# Altium integrated library Maxim Digital Potentiometers.IntLib: 1045 symbols (part 25 of 42)
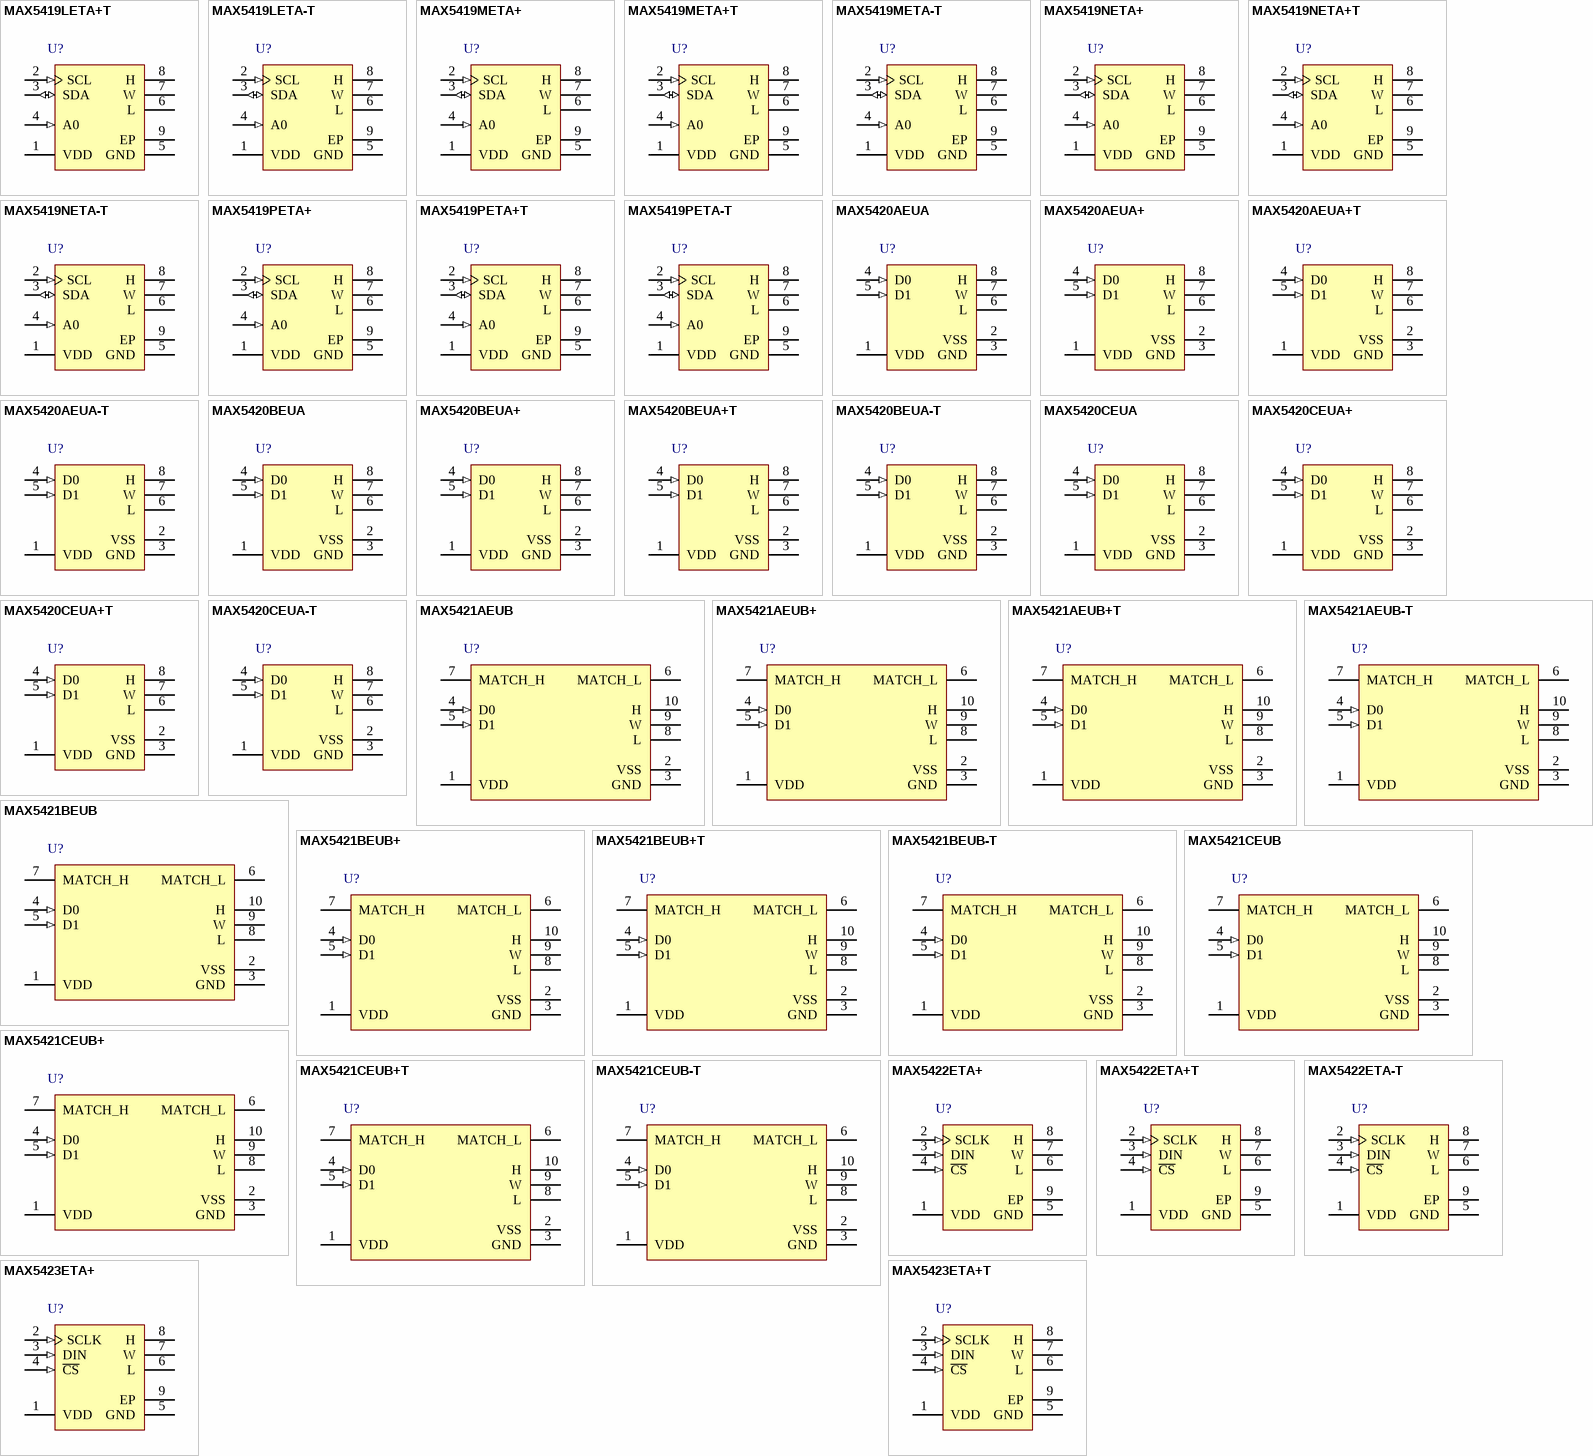
[diagram p53: symbols MAX5419LETA+T to MAX5423ETA+T]

## MAX5419PETA+T
designator U?
200 kOhm, I2C-Interface Digital Potentiometer with 2-Wire Serial Control Interface, Non-Volatile, Linear Taper, 256 Steps, -40 to 85 degC, 8-pin TDFN-EP (T833+2), Pb-Free, Tape and Reel; PartNumber: MAX5419PETA+T; DatasheetVersion: Rev. 4; PackageVersion: Rev. J, 08/2009; PackageReference: T833+2; PackageDescription: 8-Pin Plastic Very Very Thin Dual Flatpack No Leads, Exposed Pad (T833+2); Supplier 1: Digi-Key; Supplier Part Number 1: MAX5419PETA+T-ND; Supplier 2: Mouser; Supplier Part Number 2: 700-MAX5419PETAT; Control Interface: 2-Wire Serial; Features: EEPROM Wiper Memory; Mounting Technology: Surface Mount; Code_JEDEC: MO229; ComponentLink1Description: Manufacturer URL; ComponentLink1URL: http://www.maximintegrated.com/; ComponentLink2Description: Datasheet; ComponentLink2URL: http://datasheets.maximintegrated.com/en/ds/MAX5417-MAX5419.pdf; ComponentLink3Description: Package Specification; ComponentLink3URL: http://pdfserv.maximintegrated.com/package_dwgs/21-0137.PDF
footprint MAXM-T833+2_V (SON, 8-Leads, Body 3x3 mm, Pitch 0.65mm, Thermal Pad 2.3x1.5mm)
pins: 1 VDD (power) "Power-Supply Input. 2.7V to 5.25V voltage range. Bypass with a 0.1uF capacitor from VDD to GND.", 2 SCL (in) "I2C-Interface Clock Input", 3 SDA (io) "I2C-Interface Data Input", 4 A0 (in) "Address Input. Sets the A0 bit in the device ID address.", 5 GND (power) "Ground", 6 L "Low Terminal", 7 W "Wiper Terminal", 8 H "High Terminal", 9 EP (power) "Exposed Pad. Internally connected to GND. Connect to a large ground plane to maximize thermal performance. Not intended as an electrical point."

## MAX5419PETA-T
designator U?
200 kOhm, I2C-Interface Digital Potentiometer with 2-Wire Serial Control Interface, Non-Volatile, Linear Taper, 256 Steps, -40 to 85 degC, 8-pin TDFN-EP (T833-2), Tape and Reel; PartNumber: MAX5419PETA-T; DatasheetVersion: Rev. 4; PackageVersion: Rev. J, 08/2009; PackageReference: T833-2; PackageDescription: 8-Pin Plastic Very Very Thin Dual Flatpack No Leads, Exposed Pad, Body 3 x 3 mm, Pitch 0.65 mm; Supplier 1: Mouser; Supplier Part Number 1: N/A; Control Interface: 2-Wire Serial; Features: EEPROM Wiper Memory; Mounting Technology: Surface Mount; Code_JEDEC: MO229; ComponentLink1Description: Manufacturer URL; ComponentLink1URL: http://www.maximintegrated.com/; ComponentLink2Description: Datasheet; ComponentLink2URL: http://datasheets.maximintegrated.com/en/ds/MAX5417-MAX5419.pdf; ComponentLink3Description: Package Specification; ComponentLink3URL: http://pdfserv.maximintegrated.com/package_dwgs/21-0137.PDF
footprint MAXM-T833-2_V (SON, 8-Leads, Body 3x3mm, Pitch 0.65mm, Thermal Pad 2.3x1.5mm, Recommended)
pins: 1 VDD (power) "Power-Supply Input. 2.7V to 5.25V voltage range. Bypass with a 0.1uF capacitor from VDD to GND.", 2 SCL (in) "I2C-Interface Clock Input", 3 SDA (io) "I2C-Interface Data Input", 4 A0 (in) "Address Input. Sets the A0 bit in the device ID address.", 5 GND (power) "Ground", 6 L "Low Terminal", 7 W "Wiper Terminal", 8 H "High Terminal", 9 EP (power) "Exposed Pad. Internally connected to GND. Connect to a large ground plane to maximize thermal performance. Not intended as an electrical point."

## MAX5420AEUA
designator U?
Digitally Programmable Precision Voltage Divider for PGAs with 2-Wire Parallel Control Interface, Volatile, 4 Steps, -40 to 85 degC, 8-pin uMAX (U8-1); PartNumber: MAX5420AEUA; DatasheetVersion: Rev. 2; PackageVersion: Rev. L, 08/2009; PackageReference: U8-1; PackageDescription: 8-Pin Micro-MAX, Thin Shrink Small-Outline (U8-1), Body 3 x 3 mm, Pitch 0.65mm; Supplier 1: Mouser; Supplier Part Number 1: N/A; Applications: Precision Voltage Divider; Control Interface: 2-Wire Parallel; Mounting Technology: Surface Mount; Code_JEDEC: MO-187; ComponentLink1Description: Manufacturer URL; ComponentLink1URL: http://www.maximintegrated.com/; ComponentLink2Description: Datasheet; ComponentLink2URL: http://datasheets.maximintegrated.com/en/ds/MAX5420-MAX5421.pdf; ComponentLink3Description: Package Specification; ComponentLink3URL: http://pdfserv.maximintegrated.com/package_dwgs/21-0036.PDF
footprint MAXM-U8-1_N (SOP, 8-Leads, Body 3x3mm, Pitch 0.65mm, IPC Medium Density)
footprint MAXM-U8-1_L (SOP, 8-Leads, Body 3x3mm, Pitch 0.65mm, IPC High Density)
footprint MAXM-U8-1_M (SOP, 8-Leads, Body 3x3mm, Pitch 0.65mm, IPC Low Density)
pins: 1 VDD (power) "Positive Supply Voltage", 2 VSS (power) "Negative Supply Voltage", 3 GND (power) "Ground", 4 D0 (in) "Digital Control Inputs. Drive D0 and D1 logic high or logic low to set the divider ratio. See Logic Control Truth Table.", 5 D1 (in) "Digital Control Inputs. Drive D0 and D1 logic high or logic low to set the divider ratio. See Logic Control Truth Table.", 6 L "Low Terminal of Resistor-Divider", 7 W "Resistor-Divider Output", 8 H "High Terminal of Resistor-Divider"

## MAX5420AEUA+
designator U?
Digitally Programmable Precision Voltage Divider for PGAs with 2-Wire Parallel Control Interface, Volatile, 4 Steps, -40 to 85 degC, 8-pin uMAX (U8+1), Pb-Free; PartNumber: MAX5420AEUA+; DatasheetVersion: Rev. 2; PackageVersion: Rev. L, 08/2009; PackageReference: U8+1; PackageDescription: 8-Pin Micro-MAX, Thin Shrink Small-Outline (U8+1), Body 3 x 3 mm, Pitch 0.65 mm; Supplier 1: Digi-Key; Supplier Part Number 1: MAX5420AEUA+-ND; Supplier 2: Mouser; Supplier Part Number 2: 700-MAX5420AEUA; Applications: Precision Voltage Divider; Control Interface: 2-Wire Parallel; Mounting Technology: Surface Mount; Code_JEDEC: MO-187; ComponentLink1Description: Manufacturer URL; ComponentLink1URL: http://www.maximintegrated.com/; ComponentLink2Description: Datasheet; ComponentLink2URL: http://datasheets.maximintegrated.com/en/ds/MAX5420-MAX5421.pdf; ComponentLink3Description: Package Specification; ComponentLink3URL: http://pdfserv.maximintegrated.com/package_dwgs/21-0036.PDF
footprint MAXM-U8+1_N (SOP, 8-Leads, Body 3x3mm, Pitch 0.65mm, IPC Medium Density)
footprint MAXM-U8+1_L (SOP, 8-Leads, Body 3x3mm, Pitch 0.65mm, IPC High Density)
footprint MAXM-U8+1_M (SOP, 8-Leads, Body 3x3mm, Pitch 0.65mm, IPC Low Density)
pins: 1 VDD (power) "Positive Supply Voltage", 2 VSS (power) "Negative Supply Voltage", 3 GND (power) "Ground", 4 D0 (in) "Digital Control Inputs. Drive D0 and D1 logic high or logic low to set the divider ratio. See Logic Control Truth Table.", 5 D1 (in) "Digital Control Inputs. Drive D0 and D1 logic high or logic low to set the divider ratio. See Logic Control Truth Table.", 6 L "Low Terminal of Resistor-Divider", 7 W "Resistor-Divider Output", 8 H "High Terminal of Resistor-Divider"

## MAX5420AEUA+T
designator U?
Digitally Programmable Precision Voltage Divider for PGAs with 2-Wire Parallel Control Interface, Volatile, 4 Steps, -40 to 85 degC, 8-pin uMAX (U8+1), Pb-Free, Tape and Reel; PartNumber: MAX5420AEUA+T; DatasheetVersion: Rev. 2; PackageVersion: Rev. L, 08/2009; PackageReference: U8+1; PackageDescription: 8-Pin Micro-MAX, Thin Shrink Small-Outline (U8+1), Body 3 x 3 mm, Pitch 0.65 mm; Supplier 1: Digi-Key; Supplier Part Number 1: MAX5420AEUA+T-ND; Supplier 2: Mouser; Supplier Part Number 2: 700-MAX5420AEUAT; Applications: Precision Voltage Divider; Control Interface: 2-Wire Parallel; Mounting Technology: Surface Mount; Code_JEDEC: MO-187; ComponentLink1Description: Manufacturer URL; ComponentLink1URL: http://www.maximintegrated.com/; ComponentLink2Description: Datasheet; ComponentLink2URL: http://datasheets.maximintegrated.com/en/ds/MAX5420-MAX5421.pdf; ComponentLink3Description: Package Specification; ComponentLink3URL: http://pdfserv.maximintegrated.com/package_dwgs/21-0036.PDF
footprint MAXM-U8+1_N (SOP, 8-Leads, Body 3x3mm, Pitch 0.65mm, IPC Medium Density)
footprint MAXM-U8+1_L (SOP, 8-Leads, Body 3x3mm, Pitch 0.65mm, IPC High Density)
footprint MAXM-U8+1_M (SOP, 8-Leads, Body 3x3mm, Pitch 0.65mm, IPC Low Density)
pins: 1 VDD (power) "Positive Supply Voltage", 2 VSS (power) "Negative Supply Voltage", 3 GND (power) "Ground", 4 D0 (in) "Digital Control Inputs. Drive D0 and D1 logic high or logic low to set the divider ratio. See Logic Control Truth Table.", 5 D1 (in) "Digital Control Inputs. Drive D0 and D1 logic high or logic low to set the divider ratio. See Logic Control Truth Table.", 6 L "Low Terminal of Resistor-Divider", 7 W "Resistor-Divider Output", 8 H "High Terminal of Resistor-Divider"

## MAX5420AEUA-T
designator U?
Digitally Programmable Precision Voltage Divider for PGAs with 2-Wire Parallel Control Interface, Volatile, 4 Steps, -40 to 85 degC, 8-pin uMAX (U8-1), Tape and Reel; PartNumber: MAX5420AEUA-T; DatasheetVersion: Rev. 2; PackageVersion: Rev. L, 08/2009; PackageReference: U8-1; PackageDescription: 8-Pin Micro-MAX, Thin Shrink Small-Outline (U8-1), Body 3 x 3 mm, Pitch 0.65mm; Supplier 1: Mouser; Supplier Part Number 1: N/A; Applications: Precision Voltage Divider; Control Interface: 2-Wire Parallel; Mounting Technology: Surface Mount; Code_JEDEC: MO-187; ComponentLink1Description: Manufacturer URL; ComponentLink1URL: http://www.maximintegrated.com/; ComponentLink2Description: Datasheet; ComponentLink2URL: http://datasheets.maximintegrated.com/en/ds/MAX5420-MAX5421.pdf; ComponentLink3Description: Package Specification; ComponentLink3URL: http://pdfserv.maximintegrated.com/package_dwgs/21-0036.PDF
footprint MAXM-U8-1_N (SOP, 8-Leads, Body 3x3mm, Pitch 0.65mm, IPC Medium Density)
footprint MAXM-U8-1_L (SOP, 8-Leads, Body 3x3mm, Pitch 0.65mm, IPC High Density)
footprint MAXM-U8-1_M (SOP, 8-Leads, Body 3x3mm, Pitch 0.65mm, IPC Low Density)
pins: 1 VDD (power) "Positive Supply Voltage", 2 VSS (power) "Negative Supply Voltage", 3 GND (power) "Ground", 4 D0 (in) "Digital Control Inputs. Drive D0 and D1 logic high or logic low to set the divider ratio. See Logic Control Truth Table.", 5 D1 (in) "Digital Control Inputs. Drive D0 and D1 logic high or logic low to set the divider ratio. See Logic Control Truth Table.", 6 L "Low Terminal of Resistor-Divider", 7 W "Resistor-Divider Output", 8 H "High Terminal of Resistor-Divider"

## MAX5420BEUA
designator U?
Digitally Programmable Precision Voltage Divider for PGAs with 2-Wire Parallel Control Interface, Volatile, 4 Steps, -40 to 85 degC, 8-pin uMAX (U8-1); PartNumber: MAX5420BEUA; DatasheetVersion: Rev. 2; PackageVersion: Rev. L, 08/2009; PackageReference: U8-1; PackageDescription: 8-Pin Micro-MAX, Thin Shrink Small-Outline (U8-1), Body 3 x 3 mm, Pitch 0.65mm; Supplier 1: Mouser; Supplier Part Number 1: N/A; Applications: Precision Voltage Divider; Control Interface: 2-Wire Parallel; Mounting Technology: Surface Mount; Code_JEDEC: MO-187; ComponentLink1Description: Manufacturer URL; ComponentLink1URL: http://www.maximintegrated.com/; ComponentLink2Description: Datasheet; ComponentLink2URL: http://datasheets.maximintegrated.com/en/ds/MAX5420-MAX5421.pdf; ComponentLink3Description: Package Specification; ComponentLink3URL: http://pdfserv.maximintegrated.com/package_dwgs/21-0036.PDF
footprint MAXM-U8-1_N (SOP, 8-Leads, Body 3x3mm, Pitch 0.65mm, IPC Medium Density)
footprint MAXM-U8-1_L (SOP, 8-Leads, Body 3x3mm, Pitch 0.65mm, IPC High Density)
footprint MAXM-U8-1_M (SOP, 8-Leads, Body 3x3mm, Pitch 0.65mm, IPC Low Density)
pins: 1 VDD (power) "Positive Supply Voltage", 2 VSS (power) "Negative Supply Voltage", 3 GND (power) "Ground", 4 D0 (in) "Digital Control Inputs. Drive D0 and D1 logic high or logic low to set the divider ratio. See Logic Control Truth Table.", 5 D1 (in) "Digital Control Inputs. Drive D0 and D1 logic high or logic low to set the divider ratio. See Logic Control Truth Table.", 6 L "Low Terminal of Resistor-Divider", 7 W "Resistor-Divider Output", 8 H "High Terminal of Resistor-Divider"

## MAX5420BEUA+
designator U?
Digitally Programmable Precision Voltage Divider for PGAs with 2-Wire Parallel Control Interface, Volatile, 4 Steps, -40 to 85 degC, 8-pin uMAX (U8+1), Pb-Free; PartNumber: MAX5420BEUA+; DatasheetVersion: Rev. 2; PackageVersion: Rev. L, 08/2009; PackageReference: U8+1; PackageDescription: 8-Pin Micro-MAX, Thin Shrink Small-Outline (U8+1), Body 3 x 3 mm, Pitch 0.65 mm; Supplier 1: Digi-Key; Supplier Part Number 1: MAX5420BEUA+-ND; Supplier 2: Mouser; Supplier Part Number 2: 700-MAX5420BEUA; Applications: Precision Voltage Divider; Control Interface: 2-Wire Parallel; Mounting Technology: Surface Mount; Code_JEDEC: MO-187; ComponentLink1Description: Manufacturer URL; ComponentLink1URL: http://www.maximintegrated.com/; ComponentLink2Description: Datasheet; ComponentLink2URL: http://datasheets.maximintegrated.com/en/ds/MAX5420-MAX5421.pdf; ComponentLink3Description: Package Specification; ComponentLink3URL: http://pdfserv.maximintegrated.com/package_dwgs/21-0036.PDF
footprint MAXM-U8+1_N (SOP, 8-Leads, Body 3x3mm, Pitch 0.65mm, IPC Medium Density)
footprint MAXM-U8+1_L (SOP, 8-Leads, Body 3x3mm, Pitch 0.65mm, IPC High Density)
footprint MAXM-U8+1_M (SOP, 8-Leads, Body 3x3mm, Pitch 0.65mm, IPC Low Density)
pins: 1 VDD (power) "Positive Supply Voltage", 2 VSS (power) "Negative Supply Voltage", 3 GND (power) "Ground", 4 D0 (in) "Digital Control Inputs. Drive D0 and D1 logic high or logic low to set the divider ratio. See Logic Control Truth Table.", 5 D1 (in) "Digital Control Inputs. Drive D0 and D1 logic high or logic low to set the divider ratio. See Logic Control Truth Table.", 6 L "Low Terminal of Resistor-Divider", 7 W "Resistor-Divider Output", 8 H "High Terminal of Resistor-Divider"

## MAX5420BEUA+T
designator U?
Digitally Programmable Precision Voltage Divider for PGAs with 2-Wire Parallel Control Interface, Volatile, 4 Steps, -40 to 85 degC, 8-pin uMAX (U8+1), Pb-Free, Tape and Reel; PartNumber: MAX5420BEUA+T; DatasheetVersion: Rev. 2; PackageVersion: Rev. L, 08/2009; PackageReference: U8+1; PackageDescription: 8-Pin Micro-MAX, Thin Shrink Small-Outline (U8+1), Body 3 x 3 mm, Pitch 0.65 mm; Supplier 1: Digi-Key; Supplier Part Number 1: MAX5420BEUA+T-ND; Supplier 2: Mouser; Supplier Part Number 2: 700-MAX5420BEUAT; Applications: Precision Voltage Divider; Control Interface: 2-Wire Parallel; Mounting Technology: Surface Mount; Code_JEDEC: MO-187; ComponentLink1Description: Manufacturer URL; ComponentLink1URL: http://www.maximintegrated.com/; ComponentLink2Description: Datasheet; ComponentLink2URL: http://datasheets.maximintegrated.com/en/ds/MAX5420-MAX5421.pdf; ComponentLink3Description: Package Specification; ComponentLink3URL: http://pdfserv.maximintegrated.com/package_dwgs/21-0036.PDF
footprint MAXM-U8+1_N (SOP, 8-Leads, Body 3x3mm, Pitch 0.65mm, IPC Medium Density)
footprint MAXM-U8+1_L (SOP, 8-Leads, Body 3x3mm, Pitch 0.65mm, IPC High Density)
footprint MAXM-U8+1_M (SOP, 8-Leads, Body 3x3mm, Pitch 0.65mm, IPC Low Density)
pins: 1 VDD (power) "Positive Supply Voltage", 2 VSS (power) "Negative Supply Voltage", 3 GND (power) "Ground", 4 D0 (in) "Digital Control Inputs. Drive D0 and D1 logic high or logic low to set the divider ratio. See Logic Control Truth Table.", 5 D1 (in) "Digital Control Inputs. Drive D0 and D1 logic high or logic low to set the divider ratio. See Logic Control Truth Table.", 6 L "Low Terminal of Resistor-Divider", 7 W "Resistor-Divider Output", 8 H "High Terminal of Resistor-Divider"

## MAX5420BEUA-T
designator U?
Digitally Programmable Precision Voltage Divider for PGAs with 2-Wire Parallel Control Interface, Volatile, 4 Steps, -40 to 85 degC, 8-pin uMAX (U8-1), Tape and Reel; PartNumber: MAX5420BEUA-T; DatasheetVersion: Rev. 2; PackageVersion: Rev. L, 08/2009; PackageReference: U8-1; PackageDescription: 8-Pin Micro-MAX, Thin Shrink Small-Outline (U8-1), Body 3 x 3 mm, Pitch 0.65mm; Supplier 1: Mouser; Supplier Part Number 1: N/A; Applications: Precision Voltage Divider; Control Interface: 2-Wire Parallel; Mounting Technology: Surface Mount; Code_JEDEC: MO-187; ComponentLink1Description: Manufacturer URL; ComponentLink1URL: http://www.maximintegrated.com/; ComponentLink2Description: Datasheet; ComponentLink2URL: http://datasheets.maximintegrated.com/en/ds/MAX5420-MAX5421.pdf; ComponentLink3Description: Package Specification; ComponentLink3URL: http://pdfserv.maximintegrated.com/package_dwgs/21-0036.PDF
footprint MAXM-U8-1_N (SOP, 8-Leads, Body 3x3mm, Pitch 0.65mm, IPC Medium Density)
footprint MAXM-U8-1_L (SOP, 8-Leads, Body 3x3mm, Pitch 0.65mm, IPC High Density)
footprint MAXM-U8-1_M (SOP, 8-Leads, Body 3x3mm, Pitch 0.65mm, IPC Low Density)
pins: 1 VDD (power) "Positive Supply Voltage", 2 VSS (power) "Negative Supply Voltage", 3 GND (power) "Ground", 4 D0 (in) "Digital Control Inputs. Drive D0 and D1 logic high or logic low to set the divider ratio. See Logic Control Truth Table.", 5 D1 (in) "Digital Control Inputs. Drive D0 and D1 logic high or logic low to set the divider ratio. See Logic Control Truth Table.", 6 L "Low Terminal of Resistor-Divider", 7 W "Resistor-Divider Output", 8 H "High Terminal of Resistor-Divider"

## MAX5420CEUA
designator U?
Digitally Programmable Precision Voltage Divider for PGAs with 2-Wire Parallel Control Interface, Volatile, 4 Steps, -40 to 85 degC, 8-pin uMAX (U8-1); PartNumber: MAX5420CEUA; DatasheetVersion: Rev. 2; PackageVersion: Rev. L, 08/2009; PackageReference: U8-1; PackageDescription: 8-Pin Micro-MAX, Thin Shrink Small-Outline (U8-1), Body 3 x 3 mm, Pitch 0.65mm; Supplier 1: Mouser; Supplier Part Number 1: N/A; Applications: Precision Voltage Divider; Control Interface: 2-Wire Parallel; Mounting Technology: Surface Mount; Code_JEDEC: MO-187; ComponentLink1Description: Manufacturer URL; ComponentLink1URL: http://www.maximintegrated.com/; ComponentLink2Description: Datasheet; ComponentLink2URL: http://datasheets.maximintegrated.com/en/ds/MAX5420-MAX5421.pdf; ComponentLink3Description: Package Specification; ComponentLink3URL: http://pdfserv.maximintegrated.com/package_dwgs/21-0036.PDF
footprint MAXM-U8-1_N (SOP, 8-Leads, Body 3x3mm, Pitch 0.65mm, IPC Medium Density)
footprint MAXM-U8-1_L (SOP, 8-Leads, Body 3x3mm, Pitch 0.65mm, IPC High Density)
footprint MAXM-U8-1_M (SOP, 8-Leads, Body 3x3mm, Pitch 0.65mm, IPC Low Density)
pins: 1 VDD (power) "Positive Supply Voltage", 2 VSS (power) "Negative Supply Voltage", 3 GND (power) "Ground", 4 D0 (in) "Digital Control Inputs. Drive D0 and D1 logic high or logic low to set the divider ratio. See Logic Control Truth Table.", 5 D1 (in) "Digital Control Inputs. Drive D0 and D1 logic high or logic low to set the divider ratio. See Logic Control Truth Table.", 6 L "Low Terminal of Resistor-Divider", 7 W "Resistor-Divider Output", 8 H "High Terminal of Resistor-Divider"

## MAX5420CEUA+
designator U?
Digitally Programmable Precision Voltage Divider for PGAs with 2-Wire Parallel Control Interface, Volatile, 4 Steps, -40 to 85 degC, 8-pin uMAX (U8+1), Pb-Free; PartNumber: MAX5420CEUA+; DatasheetVersion: Rev. 2; PackageVersion: Rev. L, 08/2009; PackageReference: U8+1; PackageDescription: 8-Pin Micro-MAX, Thin Shrink Small-Outline (U8+1), Body 3 x 3 mm, Pitch 0.65 mm; Supplier 1: Digi-Key; Supplier Part Number 1: MAX5420CEUA+-ND; Supplier 2: Mouser; Supplier Part Number 2: 700-MAX5420CEUA; Applications: Precision Voltage Divider; Control Interface: 2-Wire Parallel; Mounting Technology: Surface Mount; Code_JEDEC: MO-187; ComponentLink1Description: Manufacturer URL; ComponentLink1URL: http://www.maximintegrated.com/; ComponentLink2Description: Datasheet; ComponentLink2URL: http://datasheets.maximintegrated.com/en/ds/MAX5420-MAX5421.pdf; ComponentLink3Description: Package Specification; ComponentLink3URL: http://pdfserv.maximintegrated.com/package_dwgs/21-0036.PDF
footprint MAXM-U8+1_N (SOP, 8-Leads, Body 3x3mm, Pitch 0.65mm, IPC Medium Density)
footprint MAXM-U8+1_L (SOP, 8-Leads, Body 3x3mm, Pitch 0.65mm, IPC High Density)
footprint MAXM-U8+1_M (SOP, 8-Leads, Body 3x3mm, Pitch 0.65mm, IPC Low Density)
pins: 1 VDD (power) "Positive Supply Voltage", 2 VSS (power) "Negative Supply Voltage", 3 GND (power) "Ground", 4 D0 (in) "Digital Control Inputs. Drive D0 and D1 logic high or logic low to set the divider ratio. See Logic Control Truth Table.", 5 D1 (in) "Digital Control Inputs. Drive D0 and D1 logic high or logic low to set the divider ratio. See Logic Control Truth Table.", 6 L "Low Terminal of Resistor-Divider", 7 W "Resistor-Divider Output", 8 H "High Terminal of Resistor-Divider"

## MAX5420CEUA+T
designator U?
Digitally Programmable Precision Voltage Divider for PGAs with 2-Wire Parallel Control Interface, Volatile, 4 Steps, -40 to 85 degC, 8-pin uMAX (U8+1), Pb-Free, Tape and Reel; PartNumber: MAX5420CEUA+T; DatasheetVersion: Rev. 2; PackageVersion: Rev. L, 08/2009; PackageReference: U8+1; PackageDescription: 8-Pin Micro-MAX, Thin Shrink Small-Outline (U8+1), Body 3 x 3 mm, Pitch 0.65 mm; Supplier 1: Digi-Key; Supplier Part Number 1: MAX5420CEUA+T-ND; Supplier 2: Mouser; Supplier Part Number 2: 700-MAX5420CEUAT; Applications: Precision Voltage Divider; Control Interface: 2-Wire Parallel; Mounting Technology: Surface Mount; Code_JEDEC: MO-187; ComponentLink1Description: Manufacturer URL; ComponentLink1URL: http://www.maximintegrated.com/; ComponentLink2Description: Datasheet; ComponentLink2URL: http://datasheets.maximintegrated.com/en/ds/MAX5420-MAX5421.pdf; ComponentLink3Description: Package Specification; ComponentLink3URL: http://pdfserv.maximintegrated.com/package_dwgs/21-0036.PDF
footprint MAXM-U8+1_N (SOP, 8-Leads, Body 3x3mm, Pitch 0.65mm, IPC Medium Density)
footprint MAXM-U8+1_L (SOP, 8-Leads, Body 3x3mm, Pitch 0.65mm, IPC High Density)
footprint MAXM-U8+1_M (SOP, 8-Leads, Body 3x3mm, Pitch 0.65mm, IPC Low Density)
pins: 1 VDD (power) "Positive Supply Voltage", 2 VSS (power) "Negative Supply Voltage", 3 GND (power) "Ground", 4 D0 (in) "Digital Control Inputs. Drive D0 and D1 logic high or logic low to set the divider ratio. See Logic Control Truth Table.", 5 D1 (in) "Digital Control Inputs. Drive D0 and D1 logic high or logic low to set the divider ratio. See Logic Control Truth Table.", 6 L "Low Terminal of Resistor-Divider", 7 W "Resistor-Divider Output", 8 H "High Terminal of Resistor-Divider"

## MAX5420CEUA-T
designator U?
Digitally Programmable Precision Voltage Divider for PGAs with 2-Wire Parallel Control Interface, Volatile, 4 Steps, -40 to 85 degC, 8-pin uMAX (U8-1), Tape and Reel; PartNumber: MAX5420CEUA-T; DatasheetVersion: Rev. 2; PackageVersion: Rev. L, 08/2009; PackageReference: U8-1; PackageDescription: 8-Pin Micro-MAX, Thin Shrink Small-Outline (U8-1), Body 3 x 3 mm, Pitch 0.65mm; Supplier 1: Mouser; Supplier Part Number 1: N/A; Applications: Precision Voltage Divider; Control Interface: 2-Wire Parallel; Mounting Technology: Surface Mount; Code_JEDEC: MO-187; ComponentLink1Description: Manufacturer URL; ComponentLink1URL: http://www.maximintegrated.com/; ComponentLink2Description: Datasheet; ComponentLink2URL: http://datasheets.maximintegrated.com/en/ds/MAX5420-MAX5421.pdf; ComponentLink3Description: Package Specification; ComponentLink3URL: http://pdfserv.maximintegrated.com/package_dwgs/21-0036.PDF
footprint MAXM-U8-1_N (SOP, 8-Leads, Body 3x3mm, Pitch 0.65mm, IPC Medium Density)
footprint MAXM-U8-1_L (SOP, 8-Leads, Body 3x3mm, Pitch 0.65mm, IPC High Density)
footprint MAXM-U8-1_M (SOP, 8-Leads, Body 3x3mm, Pitch 0.65mm, IPC Low Density)
pins: 1 VDD (power) "Positive Supply Voltage", 2 VSS (power) "Negative Supply Voltage", 3 GND (power) "Ground", 4 D0 (in) "Digital Control Inputs. Drive D0 and D1 logic high or logic low to set the divider ratio. See Logic Control Truth Table.", 5 D1 (in) "Digital Control Inputs. Drive D0 and D1 logic high or logic low to set the divider ratio. See Logic Control Truth Table.", 6 L "Low Terminal of Resistor-Divider", 7 W "Resistor-Divider Output", 8 H "High Terminal of Resistor-Divider"

## MAX5421AEUB
designator U?
Digitally Programmable Precision Voltage Divider for PGAs with 2-Wire Parallel Control Interface, Volatile, 4 Steps, -40 to 85 degC, 10-pin uMAX (U10-2); PartNumber: MAX5421AEUB; DatasheetVersion: Rev. 2; PackageVersion: Rev. L, 07/2008; PackageReference: U10-2; PackageDescription: 10-Pin Micro-MAX, Thin Shrink Small-Outline (U10-2), Body 3 x 3 mm, Pitch 0.5 mm; Supplier 1: Mouser; Supplier Part Number 1: N/A; Applications: Precision Voltage Divider; Control Interface: 2-Wire Parallel; Features: Op-Amp Input Bias Current Comp. Resistor; Mounting Technology: Surface Mount; Code_JEDEC: MO-187; ComponentLink1Description: Manufacturer URL; ComponentLink1URL: http://www.maximintegrated.com/; ComponentLink2Description: Datasheet; ComponentLink2URL: http://datasheets.maximintegrated.com/en/ds/MAX5420-MAX5421.pdf; ComponentLink3Description: Package Specification; ComponentLink3URL: http://pdfserv.maximintegrated.com/package_dwgs/21-0061.PDF
footprint MAXM-U10-2_N (SOP, 10-Leads, Body 3x3mm, Pitch 0.5mm, IPC Medium Density)
footprint MAXM-U10-2_L (SOP, 10-Leads, Body 3x3mm, Pitch 0.5mm, IPC High Density)
footprint MAXM-U10-2_M (SOP, 10-Leads, Body 3x3mm, Pitch 0.5mm, IPC Low Density)
pins: 1 VDD (power) "Positive Supply Voltage", 2 VSS (power) "Negative Supply Voltage", 3 GND (power) "Ground", 4 D0 (in) "Digital Control Inputs. Drive D0 logic high or logic low to set the divider ratio. See Logic Control Truth Table", 5 D1 (in) "Digital Control Inputs. Drive D1 logic high or logic low to set the divider ratio. See Logic Control Truth Table", 6 MATCH_L "Matching Resistor Low Terminal", 7 MATCH_H "Matching Resistor High Terminal", 8 L "Low Terminal of Resistor-Divider", 9 W "Resistor-Divider Output", 10 H "High Terminal of Resistor-Divider"

## MAX5421AEUB+
designator U?
Digitally Programmable Precision Voltage Divider for PGAs with 2-Wire Parallel Control Interface, Volatile, 4 Steps, -40 to 85 degC, 10-pin uMAX (U10+2), Pb-Free; PartNumber: MAX5421AEUB+; DatasheetVersion: Rev. 2; PackageVersion: Rev. L, 07/2008; PackageReference: U10+2; PackageDescription: 10-Pin Micro-MAX, Thin Shrink Small-Outline (U10+2), Body 3 x 3 mm, Pitch 0.5 mm; Supplier 1: Digi-Key; Supplier Part Number 1: MAX5421AEUB+-ND; Supplier 2: Mouser; Supplier Part Number 2: 700-MAX5421AEUB; Applications: Precision Voltage Divider; Control Interface: 2-Wire Parallel; Features: Op-Amp Input Bias Current Comp. Resistor; Mounting Technology: Surface Mount; Code_JEDEC: MO-187; ComponentLink1Description: Manufacturer URL; ComponentLink1URL: http://www.maximintegrated.com/; ComponentLink2Description: Datasheet; ComponentLink2URL: http://datasheets.maximintegrated.com/en/ds/MAX5420-MAX5421.pdf; ComponentLink3Description: Package Specification; ComponentLink3URL: http://pdfserv.maximintegrated.com/package_dwgs/21-0061.PDF
footprint MAXM-U10+2_N (SOP, 10-Leads, Body 3x3mm, Pitch 0.5mm, IPC Medium Density)
footprint MAXM-U10+2_L (SOP, 10-Leads, Body 3x3mm, Pitch 0.5mm, IPC High Density)
footprint MAXM-U10+2_M (SOP, 10-Leads, Body 3x3mm, Pitch 0.5mm, IPC Low Density)
pins: 1 VDD (power) "Positive Supply Voltage", 2 VSS (power) "Negative Supply Voltage", 3 GND (power) "Ground", 4 D0 (in) "Digital Control Inputs. Drive D0 logic high or logic low to set the divider ratio. See Logic Control Truth Table", 5 D1 (in) "Digital Control Inputs. Drive D1 logic high or logic low to set the divider ratio. See Logic Control Truth Table", 6 MATCH_L "Matching Resistor Low Terminal", 7 MATCH_H "Matching Resistor High Terminal", 8 L "Low Terminal of Resistor-Divider", 9 W "Resistor-Divider Output", 10 H "High Terminal of Resistor-Divider"

## MAX5421AEUB+T
designator U?
Digitally Programmable Precision Voltage Divider for PGAs with 2-Wire Parallel Control Interface, Volatile, 4 Steps, -40 to 85 degC, 10-pin uMAX (U10+2), Pb-Free, Tape and Reel; PartNumber: MAX5421AEUB+T; DatasheetVersion: Rev. 2; PackageVersion: Rev. L, 07/2008; PackageReference: U10+2; PackageDescription: 10-Pin Micro-MAX, Thin Shrink Small-Outline (U10+2), Body 3 x 3 mm, Pitch 0.5 mm; Supplier 1: Digi-Key; Supplier Part Number 1: MAX5421AEUB+T-ND; Supplier 2: Mouser; Supplier Part Number 2: 700-MAX5421AEUBT; Applications: Precision Voltage Divider; Control Interface: 2-Wire Parallel; Features: Op-Amp Input Bias Current Comp. Resistor; Mounting Technology: Surface Mount; Code_JEDEC: MO-187; ComponentLink1Description: Manufacturer URL; ComponentLink1URL: http://www.maximintegrated.com/; ComponentLink2Description: Datasheet; ComponentLink2URL: http://datasheets.maximintegrated.com/en/ds/MAX5420-MAX5421.pdf; ComponentLink3Description: Package Specification; ComponentLink3URL: http://pdfserv.maximintegrated.com/package_dwgs/21-0061.PDF
footprint MAXM-U10+2_N (SOP, 10-Leads, Body 3x3mm, Pitch 0.5mm, IPC Medium Density)
footprint MAXM-U10+2_L (SOP, 10-Leads, Body 3x3mm, Pitch 0.5mm, IPC High Density)
footprint MAXM-U10+2_M (SOP, 10-Leads, Body 3x3mm, Pitch 0.5mm, IPC Low Density)
pins: 1 VDD (power) "Positive Supply Voltage", 2 VSS (power) "Negative Supply Voltage", 3 GND (power) "Ground", 4 D0 (in) "Digital Control Inputs. Drive D0 logic high or logic low to set the divider ratio. See Logic Control Truth Table", 5 D1 (in) "Digital Control Inputs. Drive D1 logic high or logic low to set the divider ratio. See Logic Control Truth Table", 6 MATCH_L "Matching Resistor Low Terminal", 7 MATCH_H "Matching Resistor High Terminal", 8 L "Low Terminal of Resistor-Divider", 9 W "Resistor-Divider Output", 10 H "High Terminal of Resistor-Divider"

## MAX5421AEUB-T
designator U?
Digitally Programmable Precision Voltage Divider for PGAs with 2-Wire Parallel Control Interface, Volatile, 4 Steps, -40 to 85 degC, 10-pin uMAX (U10-2), Tape and Reel; PartNumber: MAX5421AEUB-T; DatasheetVersion: Rev. 2; PackageVersion: Rev. L, 07/2008; PackageReference: U10-2; PackageDescription: 10-Pin Micro-MAX, Thin Shrink Small-Outline (U10-2), Body 3 x 3 mm, Pitch 0.5 mm; Supplier 1: Mouser; Supplier Part Number 1: N/A; Applications: Precision Voltage Divider; Control Interface: 2-Wire Parallel; Features: Op-Amp Input Bias Current Comp. Resistor; Mounting Technology: Surface Mount; Code_JEDEC: MO-187; ComponentLink1Description: Manufacturer URL; ComponentLink1URL: http://www.maximintegrated.com/; ComponentLink2Description: Datasheet; ComponentLink2URL: http://datasheets.maximintegrated.com/en/ds/MAX5420-MAX5421.pdf; ComponentLink3Description: Package Specification; ComponentLink3URL: http://pdfserv.maximintegrated.com/package_dwgs/21-0061.PDF
footprint MAXM-U10-2_N (SOP, 10-Leads, Body 3x3mm, Pitch 0.5mm, IPC Medium Density)
footprint MAXM-U10-2_L (SOP, 10-Leads, Body 3x3mm, Pitch 0.5mm, IPC High Density)
footprint MAXM-U10-2_M (SOP, 10-Leads, Body 3x3mm, Pitch 0.5mm, IPC Low Density)
pins: 1 VDD (power) "Positive Supply Voltage", 2 VSS (power) "Negative Supply Voltage", 3 GND (power) "Ground", 4 D0 (in) "Digital Control Inputs. Drive D0 logic high or logic low to set the divider ratio. See Logic Control Truth Table", 5 D1 (in) "Digital Control Inputs. Drive D1 logic high or logic low to set the divider ratio. See Logic Control Truth Table", 6 MATCH_L "Matching Resistor Low Terminal", 7 MATCH_H "Matching Resistor High Terminal", 8 L "Low Terminal of Resistor-Divider", 9 W "Resistor-Divider Output", 10 H "High Terminal of Resistor-Divider"

## MAX5421BEUB
designator U?
Digitally Programmable Precision Voltage Divider for PGAs with 2-Wire Parallel Control Interface, Volatile, 4 Steps, -40 to 85 degC, 10-pin uMAX (U10-2); PartNumber: MAX5421BEUB; DatasheetVersion: Rev. 2; PackageVersion: Rev. L, 07/2008; PackageReference: U10-2; PackageDescription: 10-Pin Micro-MAX, Thin Shrink Small-Outline (U10-2), Body 3 x 3 mm, Pitch 0.5 mm; Supplier 1: Mouser; Supplier Part Number 1: N/A; Applications: Precision Voltage Divider; Control Interface: 2-Wire Parallel; Features: Op-Amp Input Bias Current Comp. Resistor; Mounting Technology: Surface Mount; Code_JEDEC: MO-187; ComponentLink1Description: Manufacturer URL; ComponentLink1URL: http://www.maximintegrated.com/; ComponentLink2Description: Datasheet; ComponentLink2URL: http://datasheets.maximintegrated.com/en/ds/MAX5420-MAX5421.pdf; ComponentLink3Description: Package Specification; ComponentLink3URL: http://pdfserv.maximintegrated.com/package_dwgs/21-0061.PDF
footprint MAXM-U10-2_N (SOP, 10-Leads, Body 3x3mm, Pitch 0.5mm, IPC Medium Density)
footprint MAXM-U10-2_L (SOP, 10-Leads, Body 3x3mm, Pitch 0.5mm, IPC High Density)
footprint MAXM-U10-2_M (SOP, 10-Leads, Body 3x3mm, Pitch 0.5mm, IPC Low Density)
pins: 1 VDD (power) "Positive Supply Voltage", 2 VSS (power) "Negative Supply Voltage", 3 GND (power) "Ground", 4 D0 (in) "Digital Control Inputs. Drive D0 logic high or logic low to set the divider ratio. See Logic Control Truth Table", 5 D1 (in) "Digital Control Inputs. Drive D1 logic high or logic low to set the divider ratio. See Logic Control Truth Table", 6 MATCH_L "Matching Resistor Low Terminal", 7 MATCH_H "Matching Resistor High Terminal", 8 L "Low Terminal of Resistor-Divider", 9 W "Resistor-Divider Output", 10 H "High Terminal of Resistor-Divider"

## MAX5421BEUB+
designator U?
Digitally Programmable Precision Voltage Divider for PGAs with 2-Wire Parallel Control Interface, Volatile, 4 Steps, -40 to 85 degC, 10-pin uMAX (U10+2), Pb-Free; PartNumber: MAX5421BEUB+; DatasheetVersion: Rev. 2; PackageVersion: Rev. L, 07/2008; PackageReference: U10+2; PackageDescription: 10-Pin Micro-MAX, Thin Shrink Small-Outline (U10+2), Body 3 x 3 mm, Pitch 0.5 mm; Supplier 1: Digi-Key; Supplier Part Number 1: MAX5421BEUB+-ND; Supplier 2: Mouser; Supplier Part Number 2: 700-MAX5421BEUB; Applications: Precision Voltage Divider; Control Interface: 2-Wire Parallel; Features: Op-Amp Input Bias Current Comp. Resistor; Mounting Technology: Surface Mount; Code_JEDEC: MO-187; ComponentLink1Description: Manufacturer URL; ComponentLink1URL: http://www.maximintegrated.com/; ComponentLink2Description: Datasheet; ComponentLink2URL: http://datasheets.maximintegrated.com/en/ds/MAX5420-MAX5421.pdf; ComponentLink3Description: Package Specification; ComponentLink3URL: http://pdfserv.maximintegrated.com/package_dwgs/21-0061.PDF
footprint MAXM-U10+2_N (SOP, 10-Leads, Body 3x3mm, Pitch 0.5mm, IPC Medium Density)
footprint MAXM-U10+2_L (SOP, 10-Leads, Body 3x3mm, Pitch 0.5mm, IPC High Density)
footprint MAXM-U10+2_M (SOP, 10-Leads, Body 3x3mm, Pitch 0.5mm, IPC Low Density)
pins: 1 VDD (power) "Positive Supply Voltage", 2 VSS (power) "Negative Supply Voltage", 3 GND (power) "Ground", 4 D0 (in) "Digital Control Inputs. Drive D0 logic high or logic low to set the divider ratio. See Logic Control Truth Table", 5 D1 (in) "Digital Control Inputs. Drive D1 logic high or logic low to set the divider ratio. See Logic Control Truth Table", 6 MATCH_L "Matching Resistor Low Terminal", 7 MATCH_H "Matching Resistor High Terminal", 8 L "Low Terminal of Resistor-Divider", 9 W "Resistor-Divider Output", 10 H "High Terminal of Resistor-Divider"

## MAX5421BEUB+T
designator U?
Digitally Programmable Precision Voltage Divider for PGAs with 2-Wire Parallel Control Interface, Volatile, 4 Steps, -40 to 85 degC, 10-pin uMAX (U10+2), Pb-Free, Tape and Reel; PartNumber: MAX5421BEUB+T; DatasheetVersion: Rev. 2; PackageVersion: Rev. L, 07/2008; PackageReference: U10+2; PackageDescription: 10-Pin Micro-MAX, Thin Shrink Small-Outline (U10+2), Body 3 x 3 mm, Pitch 0.5 mm; Supplier 1: Digi-Key; Supplier Part Number 1: MAX5421BEUB+T-ND; Supplier 2: Mouser; Supplier Part Number 2: 700-MAX5421BEUBT; Applications: Precision Voltage Divider; Control Interface: 2-Wire Parallel; Features: Op-Amp Input Bias Current Comp. Resistor; Mounting Technology: Surface Mount; Code_JEDEC: MO-187; ComponentLink1Description: Manufacturer URL; ComponentLink1URL: http://www.maximintegrated.com/; ComponentLink2Description: Datasheet; ComponentLink2URL: http://datasheets.maximintegrated.com/en/ds/MAX5420-MAX5421.pdf; ComponentLink3Description: Package Specification; ComponentLink3URL: http://pdfserv.maximintegrated.com/package_dwgs/21-0061.PDF
footprint MAXM-U10+2_N (SOP, 10-Leads, Body 3x3mm, Pitch 0.5mm, IPC Medium Density)
footprint MAXM-U10+2_L (SOP, 10-Leads, Body 3x3mm, Pitch 0.5mm, IPC High Density)
footprint MAXM-U10+2_M (SOP, 10-Leads, Body 3x3mm, Pitch 0.5mm, IPC Low Density)
pins: 1 VDD (power) "Positive Supply Voltage", 2 VSS (power) "Negative Supply Voltage", 3 GND (power) "Ground", 4 D0 (in) "Digital Control Inputs. Drive D0 logic high or logic low to set the divider ratio. See Logic Control Truth Table", 5 D1 (in) "Digital Control Inputs. Drive D1 logic high or logic low to set the divider ratio. See Logic Control Truth Table", 6 MATCH_L "Matching Resistor Low Terminal", 7 MATCH_H "Matching Resistor High Terminal", 8 L "Low Terminal of Resistor-Divider", 9 W "Resistor-Divider Output", 10 H "High Terminal of Resistor-Divider"

## MAX5421BEUB-T
designator U?
Digitally Programmable Precision Voltage Divider for PGAs with 2-Wire Parallel Control Interface, Volatile, 4 Steps, -40 to 85 degC, 10-pin uMAX (U10-2), Tape and Reel; PartNumber: MAX5421BEUB-T; DatasheetVersion: Rev. 2; PackageVersion: Rev. L, 07/2008; PackageReference: U10-2; PackageDescription: 10-Pin Micro-MAX, Thin Shrink Small-Outline (U10-2), Body 3 x 3 mm, Pitch 0.5 mm; Supplier 1: Mouser; Supplier Part Number 1: N/A; Applications: Precision Voltage Divider; Control Interface: 2-Wire Parallel; Features: Op-Amp Input Bias Current Comp. Resistor; Mounting Technology: Surface Mount; Code_JEDEC: MO-187; ComponentLink1Description: Manufacturer URL; ComponentLink1URL: http://www.maximintegrated.com/; ComponentLink2Description: Datasheet; ComponentLink2URL: http://datasheets.maximintegrated.com/en/ds/MAX5420-MAX5421.pdf; ComponentLink3Description: Package Specification; ComponentLink3URL: http://pdfserv.maximintegrated.com/package_dwgs/21-0061.PDF
footprint MAXM-U10-2_N (SOP, 10-Leads, Body 3x3mm, Pitch 0.5mm, IPC Medium Density)
footprint MAXM-U10-2_L (SOP, 10-Leads, Body 3x3mm, Pitch 0.5mm, IPC High Density)
footprint MAXM-U10-2_M (SOP, 10-Leads, Body 3x3mm, Pitch 0.5mm, IPC Low Density)
pins: 1 VDD (power) "Positive Supply Voltage", 2 VSS (power) "Negative Supply Voltage", 3 GND (power) "Ground", 4 D0 (in) "Digital Control Inputs. Drive D0 logic high or logic low to set the divider ratio. See Logic Control Truth Table", 5 D1 (in) "Digital Control Inputs. Drive D1 logic high or logic low to set the divider ratio. See Logic Control Truth Table", 6 MATCH_L "Matching Resistor Low Terminal", 7 MATCH_H "Matching Resistor High Terminal", 8 L "Low Terminal of Resistor-Divider", 9 W "Resistor-Divider Output", 10 H "High Terminal of Resistor-Divider"

## MAX5421CEUB
designator U?
Digitally Programmable Precision Voltage Divider for PGAs with 2-Wire Parallel Control Interface, Volatile, 4 Steps, -40 to 85 degC, 10-pin uMAX (U10-2); PartNumber: MAX5421CEUB; DatasheetVersion: Rev. 2; PackageVersion: Rev. L, 07/2008; PackageReference: U10-2; PackageDescription: 10-Pin Micro-MAX, Thin Shrink Small-Outline (U10-2), Body 3 x 3 mm, Pitch 0.5 mm; Supplier 1: Mouser; Supplier Part Number 1: N/A; Applications: Precision Voltage Divider; Control Interface: 2-Wire Parallel; Features: Op-Amp Input Bias Current Comp. Resistor; Mounting Technology: Surface Mount; Code_JEDEC: MO-187; ComponentLink1Description: Manufacturer URL; ComponentLink1URL: http://www.maximintegrated.com/; ComponentLink2Description: Datasheet; ComponentLink2URL: http://datasheets.maximintegrated.com/en/ds/MAX5420-MAX5421.pdf; ComponentLink3Description: Package Specification; ComponentLink3URL: http://pdfserv.maximintegrated.com/package_dwgs/21-0061.PDF
footprint MAXM-U10-2_N (SOP, 10-Leads, Body 3x3mm, Pitch 0.5mm, IPC Medium Density)
footprint MAXM-U10-2_L (SOP, 10-Leads, Body 3x3mm, Pitch 0.5mm, IPC High Density)
footprint MAXM-U10-2_M (SOP, 10-Leads, Body 3x3mm, Pitch 0.5mm, IPC Low Density)
pins: 1 VDD (power) "Positive Supply Voltage", 2 VSS (power) "Negative Supply Voltage", 3 GND (power) "Ground", 4 D0 (in) "Digital Control Inputs. Drive D0 logic high or logic low to set the divider ratio. See Logic Control Truth Table", 5 D1 (in) "Digital Control Inputs. Drive D1 logic high or logic low to set the divider ratio. See Logic Control Truth Table", 6 MATCH_L "Matching Resistor Low Terminal", 7 MATCH_H "Matching Resistor High Terminal", 8 L "Low Terminal of Resistor-Divider", 9 W "Resistor-Divider Output", 10 H "High Terminal of Resistor-Divider"

## MAX5421CEUB+
designator U?
Digitally Programmable Precision Voltage Divider for PGAs with 2-Wire Parallel Control Interface, Volatile, 4 Steps, -40 to 85 degC, 10-pin uMAX (U10+2), Pb-Free; PartNumber: MAX5421CEUB+; DatasheetVersion: Rev. 2; PackageVersion: Rev. L, 07/2008; PackageReference: U10+2; PackageDescription: 10-Pin Micro-MAX, Thin Shrink Small-Outline (U10+2), Body 3 x 3 mm, Pitch 0.5 mm; Supplier 1: Digi-Key; Supplier Part Number 1: MAX5421CEUB+-ND; Supplier 2: Mouser; Supplier Part Number 2: 700-MAX5421CEUB; Applications: Precision Voltage Divider; Control Interface: 2-Wire Parallel; Features: Op-Amp Input Bias Current Comp. Resistor; Mounting Technology: Surface Mount; Code_JEDEC: MO-187; ComponentLink1Description: Manufacturer URL; ComponentLink1URL: http://www.maximintegrated.com/; ComponentLink2Description: Datasheet; ComponentLink2URL: http://datasheets.maximintegrated.com/en/ds/MAX5420-MAX5421.pdf; ComponentLink3Description: Package Specification; ComponentLink3URL: http://pdfserv.maximintegrated.com/package_dwgs/21-0061.PDF
footprint MAXM-U10+2_N (SOP, 10-Leads, Body 3x3mm, Pitch 0.5mm, IPC Medium Density)
footprint MAXM-U10+2_L (SOP, 10-Leads, Body 3x3mm, Pitch 0.5mm, IPC High Density)
footprint MAXM-U10+2_M (SOP, 10-Leads, Body 3x3mm, Pitch 0.5mm, IPC Low Density)
pins: 1 VDD (power) "Positive Supply Voltage", 2 VSS (power) "Negative Supply Voltage", 3 GND (power) "Ground", 4 D0 (in) "Digital Control Inputs. Drive D0 logic high or logic low to set the divider ratio. See Logic Control Truth Table", 5 D1 (in) "Digital Control Inputs. Drive D1 logic high or logic low to set the divider ratio. See Logic Control Truth Table", 6 MATCH_L "Matching Resistor Low Terminal", 7 MATCH_H "Matching Resistor High Terminal", 8 L "Low Terminal of Resistor-Divider", 9 W "Resistor-Divider Output", 10 H "High Terminal of Resistor-Divider"

## MAX5421CEUB+T
designator U?
Digitally Programmable Precision Voltage Divider for PGAs with 2-Wire Parallel Control Interface, Volatile, 4 Steps, -40 to 85 degC, 10-pin uMAX (U10+2), Pb-Free, Tape and Reel; PartNumber: MAX5421CEUB+T; DatasheetVersion: Rev. 2; PackageVersion: Rev. L, 07/2008; PackageReference: U10+2; PackageDescription: 10-Pin Micro-MAX, Thin Shrink Small-Outline (U10+2), Body 3 x 3 mm, Pitch 0.5 mm; Supplier 1: Digi-Key; Supplier Part Number 1: MAX5421CEUB+T-ND; Supplier 2: Mouser; Supplier Part Number 2: 700-MAX5421CEUBT; Applications: Precision Voltage Divider; Control Interface: 2-Wire Parallel; Features: Op-Amp Input Bias Current Comp. Resistor; Mounting Technology: Surface Mount; Code_JEDEC: MO-187; ComponentLink1Description: Manufacturer URL; ComponentLink1URL: http://www.maximintegrated.com/; ComponentLink2Description: Datasheet; ComponentLink2URL: http://datasheets.maximintegrated.com/en/ds/MAX5420-MAX5421.pdf; ComponentLink3Description: Package Specification; ComponentLink3URL: http://pdfserv.maximintegrated.com/package_dwgs/21-0061.PDF
footprint MAXM-U10+2_N (SOP, 10-Leads, Body 3x3mm, Pitch 0.5mm, IPC Medium Density)
footprint MAXM-U10+2_L (SOP, 10-Leads, Body 3x3mm, Pitch 0.5mm, IPC High Density)
footprint MAXM-U10+2_M (SOP, 10-Leads, Body 3x3mm, Pitch 0.5mm, IPC Low Density)
pins: 1 VDD (power) "Positive Supply Voltage", 2 VSS (power) "Negative Supply Voltage", 3 GND (power) "Ground", 4 D0 (in) "Digital Control Inputs. Drive D0 logic high or logic low to set the divider ratio. See Logic Control Truth Table", 5 D1 (in) "Digital Control Inputs. Drive D1 logic high or logic low to set the divider ratio. See Logic Control Truth Table", 6 MATCH_L "Matching Resistor Low Terminal", 7 MATCH_H "Matching Resistor High Terminal", 8 L "Low Terminal of Resistor-Divider", 9 W "Resistor-Divider Output", 10 H "High Terminal of Resistor-Divider"

## MAX5421CEUB-T
designator U?
Digitally Programmable Precision Voltage Divider for PGAs with 2-Wire Parallel Control Interface, Volatile, 4 Steps, -40 to 85 degC, 10-pin uMAX (U10-2), Tape and Reel; PartNumber: MAX5421CEUB-T; DatasheetVersion: Rev. 2; PackageVersion: Rev. L, 07/2008; PackageReference: U10-2; PackageDescription: 10-Pin Micro-MAX, Thin Shrink Small-Outline (U10-2), Body 3 x 3 mm, Pitch 0.5 mm; Supplier 1: Mouser; Supplier Part Number 1: N/A; Applications: Precision Voltage Divider; Control Interface: 2-Wire Parallel; Features: Op-Amp Input Bias Current Comp. Resistor; Mounting Technology: Surface Mount; Code_JEDEC: MO-187; ComponentLink1Description: Manufacturer URL; ComponentLink1URL: http://www.maximintegrated.com/; ComponentLink2Description: Datasheet; ComponentLink2URL: http://datasheets.maximintegrated.com/en/ds/MAX5420-MAX5421.pdf; ComponentLink3Description: Package Specification; ComponentLink3URL: http://pdfserv.maximintegrated.com/package_dwgs/21-0061.PDF
footprint MAXM-U10-2_N (SOP, 10-Leads, Body 3x3mm, Pitch 0.5mm, IPC Medium Density)
footprint MAXM-U10-2_L (SOP, 10-Leads, Body 3x3mm, Pitch 0.5mm, IPC High Density)
footprint MAXM-U10-2_M (SOP, 10-Leads, Body 3x3mm, Pitch 0.5mm, IPC Low Density)
pins: 1 VDD (power) "Positive Supply Voltage", 2 VSS (power) "Negative Supply Voltage", 3 GND (power) "Ground", 4 D0 (in) "Digital Control Inputs. Drive D0 logic high or logic low to set the divider ratio. See Logic Control Truth Table", 5 D1 (in) "Digital Control Inputs. Drive D1 logic high or logic low to set the divider ratio. See Logic Control Truth Table", 6 MATCH_L "Matching Resistor Low Terminal", 7 MATCH_H "Matching Resistor High Terminal", 8 L "Low Terminal of Resistor-Divider", 9 W "Resistor-Divider Output", 10 H "High Terminal of Resistor-Divider"

## MAX5422ETA+
designator U?
50kOhm, Digital Potentiometer with 3-Wire Serial SPI Control Interface, Non-Volatile, Linear Taper, 256 Steps, -40 to 85 degC, 8-pin TDFN-EP (T833+2), Pb-Free; PartNumber: MAX5422ETA+; DatasheetVersion: Rev. 0; PackageVersion: Rev. J, 08/2009; PackageReference: T833+2; PackageDescription: 8-Pin Plastic Very Very Thin Dual Flatpack No Leads, Exposed Pad (T833+2); Supplier 1: Mouser; Supplier Part Number 1: N/A; Control Interface: 3-Wire Serial SPI; Features: EEPROM Wiper Memory; Mounting Technology: Surface Mount; Code_JEDEC: MO229; ComponentLink1Description: Manufacturer URL; ComponentLink1URL: http://www.maximintegrated.com/; ComponentLink2Description: Datasheet; ComponentLink2URL: http://datasheets.maximintegrated.com/en/ds/MAX5422-MAX5424.pdf; ComponentLink3Description: Package Specification; ComponentLink3URL: http://pdfserv.maximintegrated.com/package_dwgs/21-0137.PDF
footprint MAXM-T833+2_V (SON, 8-Leads, Body 3x3 mm, Pitch 0.65mm, Thermal Pad 2.3x1.5mm)
pins: 1 VDD (power) "Power-Supply Input. Bypass VDD with a 0.1uF capacitor from VDD to GND.", 2 SCLK (in) "Serial-Interface Clock Input", 3 DIN (in) "Serial-Interface Data Input", 4 ~{CS} (in) "Active-Low Digital-Input Chip Select", 5 GND (power) "Ground", 6 L "Low Terminal. The voltage at L can be greater than or less than the voltage at H. Current can flow into or out of L.", 7 W "Wiper Terminal", 8 H "High Terminal. The voltage at H can be greater than or less than the voltage at L. Current can flow into or out of H.", 9 EP "Exposed Pad. The exposed pad is not internally connected. Connect to GND or leave floating."

## MAX5422ETA+T
designator U?
50kOhm, Digital Potentiometer with 3-Wire Serial SPI Control Interface, Non-Volatile, Linear Taper, 256 Steps, -40 to 85 degC, 8-pin TDFN-EP (T833+2), Pb-Free, Tape and Reel; PartNumber: MAX5422ETA+T; DatasheetVersion: Rev. 0; PackageVersion: Rev. J, 08/2009; PackageReference: T833+2; PackageDescription: 8-Pin Plastic Very Very Thin Dual Flatpack No Leads, Exposed Pad (T833+2); Supplier 1: Digi-Key; Supplier Part Number 1: MAX5422ETA+TTR-ND; Supplier 2: Digi-Key; Supplier Part Number 2: MAX5422ETA+TCT-ND; Supplier 3: Digi-Key; Supplier Part Number 3: MAX5422ETA+TDKR-ND; Supplier 4: Farnell; Supplier Part Number 4: 1714981RL; Supplier 5: Farnell; Supplier Part Number 5: 1714981; Supplier 6: Newark; Supplier Part Number 6: 55R1727; Supplier 7: Mouser; Supplier Part Number 7: 700-MAX5422ETAT; Control Interface: 3-Wire Serial SPI; Features: EEPROM Wiper Memory; Mounting Technology: Surface Mount; Code_JEDEC: MO229; ComponentLink1Description: Manufacturer URL; ComponentLink1URL: http://www.maximintegrated.com/; ComponentLink2Description: Datasheet; ComponentLink2URL: http://datasheets.maximintegrated.com/en/ds/MAX5422-MAX5424.pdf; ComponentLink3Description: Package Specification; ComponentLink3URL: http://pdfserv.maximintegrated.com/package_dwgs/21-0137.PDF
footprint MAXM-T833+2_V (SON, 8-Leads, Body 3x3 mm, Pitch 0.65mm, Thermal Pad 2.3x1.5mm)
pins: 1 VDD (power) "Power-Supply Input. Bypass VDD with a 0.1uF capacitor from VDD to GND.", 2 SCLK (in) "Serial-Interface Clock Input", 3 DIN (in) "Serial-Interface Data Input", 4 ~{CS} (in) "Active-Low Digital-Input Chip Select", 5 GND (power) "Ground", 6 L "Low Terminal. The voltage at L can be greater than or less than the voltage at H. Current can flow into or out of L.", 7 W "Wiper Terminal", 8 H "High Terminal. The voltage at H can be greater than or less than the voltage at L. Current can flow into or out of H.", 9 EP "Exposed Pad. The exposed pad is not internally connected. Connect to GND or leave floating."